# Altium integrated library WE-PD2 SMD Power Inductor.IntLib: 122 symbols (part 1 of 2)
Pins are listed as number, name and electrical type; pins without a type are passive.

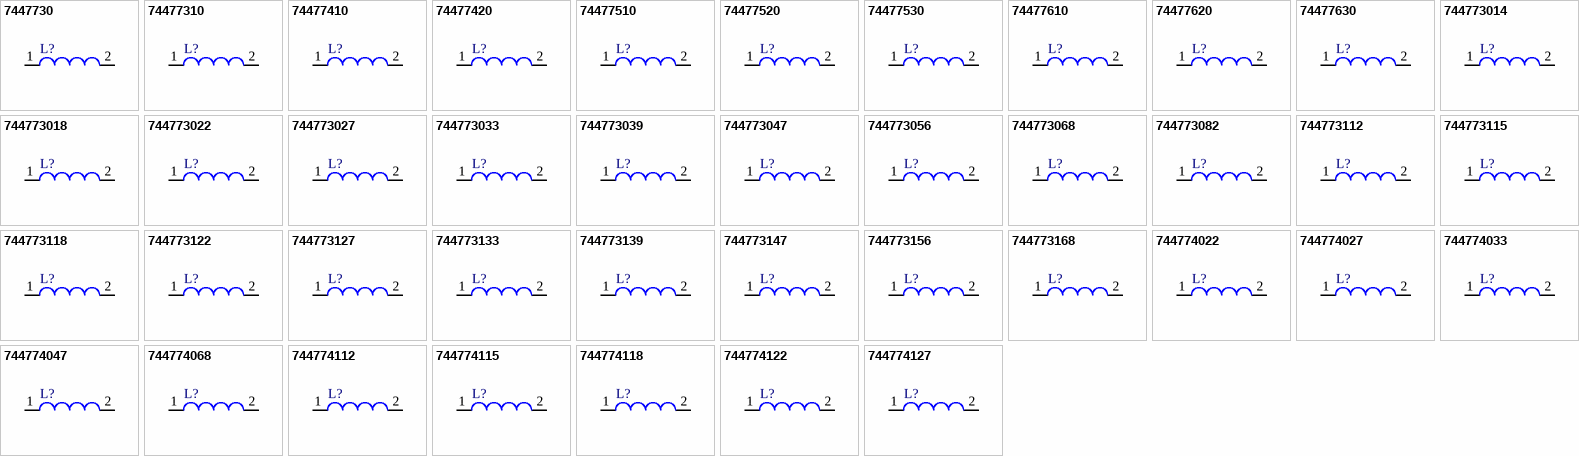
[diagram p0: symbols 7447730 to 744774127]

## 7447730
designator L?
SMD Power Inductor WE-PD2, L = 1.00 µH; PartNumber: 7447730; Inductance: 1.00 µH; DatasheetVersion: ver 1, Oct-2004; PackageReference: WE-PD2-S; PackageDescription: SMD Inductor, 2-Leads, Body 4.5 x 4.0 mm; ComponentLink1Description: Manufacturer URL; ComponentLink1URL: http://www.we-online.com; ComponentLink2Description: Datasheet; ComponentLink2URL: http://www.we-online.de/katalog/media/pdf/7447730.pdf
footprint WE-PD2-S (SMD Inductor, 2-Leads, Body 4.5x4.0x3.5 mm)
pins: 1, 2

## 74477310
designator L?
SMD Power Inductor WE-PD2, L = 10.0 µH; PartNumber: 74477310; Inductance: 10.0 µH; DatasheetVersion: ver 1, Oct-2004; PackageReference: WE-PD2-S; PackageDescription: SMD Inductor, 2-Leads, Body 4.5 x 4.0 mm; ComponentLink1Description: Manufacturer URL; ComponentLink1URL: http://www.we-online.com; ComponentLink2Description: Datasheet; ComponentLink2URL: http://www.we-online.de/katalog/media/pdf/74477310.pdf
footprint WE-PD2-S (SMD Inductor, 2-Leads, Body 4.5x4.0x3.5 mm)
pins: 1, 2

## 74477410
designator L?
SMD Power Inductor WE-PD2, L = 10.0 µH; PartNumber: 74477410; Inductance: 10.0 µH; DatasheetVersion: ver 4, Oct-2008; PackageReference: WE-PD2-M; PackageDescription: SMD Inductor, 2-Leads, Body 5.8 x 5.2 mm; ComponentLink1Description: Manufacturer URL; ComponentLink1URL: http://www.we-online.com; ComponentLink2Description: Datasheet; ComponentLink2URL: http://www.we-online.de/katalog/media/pdf/74477410.pdf
footprint WE-PD2-M (SMD Inductor, 2-Leads, Body 5.8x5.2x4.85 mm)
pins: 1, 2

## 74477420
designator L?
SMD Power Inductor WE-PD2, L = 100 µH; PartNumber: 74477420; Inductance: 100 µH; DatasheetVersion: ver 2, Jun-2005; PackageReference: WE-PD2-M; PackageDescription: SMD Inductor, 2-Leads, Body 5.8 x 5.2 mm; ComponentLink1Description: Manufacturer URL; ComponentLink1URL: http://www.we-online.com; ComponentLink2Description: Datasheet; ComponentLink2URL: http://www.we-online.de/katalog/media/pdf/74477420.pdf
footprint WE-PD2-M (SMD Inductor, 2-Leads, Body 5.8x5.2x4.85 mm)
pins: 1, 2

## 74477510
designator L?
SMD Power Inductor WE-PD2, L = 10.0 µH; PartNumber: 74477510; Inductance: 10.0 µH; DatasheetVersion: ver 1, Oct-2004; PackageReference: WE-PD2-L; PackageDescription: SMD Inductor, 2-Leads, Body 7.8 x 7.0 mm; ComponentLink1Description: Manufacturer URL; ComponentLink1URL: http://www.we-online.com; ComponentLink2Description: Datasheet; ComponentLink2URL: http://www.we-online.de/katalog/media/pdf/74477510.pdf
footprint WE-PD2-L (SMD Inductor, 2-Leads, Body 7.8x7.0x5.5 mm)
pins: 1, 2

## 74477520
designator L?
SMD Power Inductor WE-PD2, L = 100 µH; PartNumber: 74477520; Inductance: 100 µH; DatasheetVersion: ver 1, Oct-2004; PackageReference: WE-PD2-L; PackageDescription: SMD Inductor, 2-Leads, Body 7.8 x 7.0 mm; ComponentLink1Description: Manufacturer URL; ComponentLink1URL: http://www.we-online.com; ComponentLink2Description: Datasheet; ComponentLink2URL: http://www.we-online.de/katalog/media/pdf/74477520.pdf
footprint WE-PD2-L (SMD Inductor, 2-Leads, Body 7.8x7.0x5.5 mm)
pins: 1, 2

## 74477530
designator L?
SMD Power Inductor WE-PD2, L=1000 µH; PartNumber: 74477530; Inductance: 1000 µH; PackageReference: WE-PD2-L; PackageDescription: SMD Inductor, 2-Leads, Body 7.8 x 7.0 mm; ComponentLink1Description: Manufacturer URL; ComponentLink1URL: http://www.we-online.com; ComponentLink2Description: Datasheet; ComponentLink2URL: http://www.we-online.de/katalog/media/pdf/74477530.pdf
footprint WE-PD2-L (SMD Inductor, 2-Leads, Body 7.8x7.0x5.5 mm)
pins: 1, 2

## 74477610
designator L?
SMD Power Inductor WE-PD2, L = 10.0 µH; PartNumber: 74477610; Inductance: 10.0 µH; DatasheetVersion: ver 1, Oct-2004; PackageReference: WE-PD2-XL; PackageDescription: SMD Inductor, 2-Leads, Body 10.0 x 9.0 mm; ComponentLink1Description: Manufacturer URL; ComponentLink1URL: http://www.we-online.com; ComponentLink2Description: Datasheet; ComponentLink2URL: http://www.we-online.de/katalog/media/pdf/74477610.pdf
footprint WE-PD2-XL (SMD Inductor, 2-Leads, Body 10.0x9.0x5.9 mm)
pins: 1, 2

## 74477620
designator L?
SMD Power Inductor WE-PD2, L = 100 µH; PartNumber: 74477620; Inductance: 100 µH; DatasheetVersion: ver 1, Oct-2004; PackageReference: WE-PD2-XL; PackageDescription: SMD Inductor, 2-Leads, Body 10.0 x 9.0 mm; ComponentLink1Description: Manufacturer URL; ComponentLink1URL: http://www.we-online.com; ComponentLink2Description: Datasheet; ComponentLink2URL: http://www.we-online.de/katalog/media/pdf/74477620.pdf
footprint WE-PD2-XL (SMD Inductor, 2-Leads, Body 10.0x9.0x5.9 mm)
pins: 1, 2

## 74477630
designator L?
SMD Power Inductor WE-PD2, L=1000 µH; PartNumber: 74477630; Inductance: 1000 µH; PackageReference: WE-PD2-XL; PackageDescription: SMD Inductor, 2-Leads, Body 10.0 x 9.0 mm; ComponentLink1Description: Manufacturer URL; ComponentLink1URL: http://www.we-online.com; ComponentLink2Description: Datasheet; ComponentLink2URL: http://www.we-online.de/katalog/media/pdf/74477630.pdf
footprint WE-PD2-XL (SMD Inductor, 2-Leads, Body 10.0x9.0x5.9 mm)
pins: 1, 2

## 744773014
designator L?
SMD Power Inductor WE-PD2, L = 1.40 µH; PartNumber: 744773014; Inductance: 1.40 µH; DatasheetVersion: ver 1, Oct-2004; PackageReference: WE-PD2-S; PackageDescription: SMD Inductor, 2-Leads, Body 4.5 x 4.0 mm; ComponentLink1Description: Manufacturer URL; ComponentLink1URL: http://www.we-online.com; ComponentLink2Description: Datasheet; ComponentLink2URL: http://www.we-online.de/katalog/media/pdf/744773014.pdf
footprint WE-PD2-S (SMD Inductor, 2-Leads, Body 4.5x4.0x3.5 mm)
pins: 1, 2

## 744773018
designator L?
SMD Power Inductor WE-PD2, L = 1.80 µH; PartNumber: 744773018; Inductance: 1.80 µH; DatasheetVersion: ver 1, Oct-2004; PackageReference: WE-PD2-S; PackageDescription: SMD Inductor, 2-Leads, Body 4.5 x 4.0 mm; ComponentLink1Description: Manufacturer URL; ComponentLink1URL: http://www.we-online.com; ComponentLink2Description: Datasheet; ComponentLink2URL: http://www.we-online.de/katalog/media/pdf/744773018.pdf
footprint WE-PD2-S (SMD Inductor, 2-Leads, Body 4.5x4.0x3.5 mm)
pins: 1, 2

## 744773022
designator L?
SMD Power Inductor WE-PD2, L = 2.20 µH; PartNumber: 744773022; Inductance: 2.20 µH; DatasheetVersion: ver 1, Oct-2004; PackageReference: WE-PD2-S; PackageDescription: SMD Inductor, 2-Leads, Body 4.5 x 4.0 mm; ComponentLink1Description: Manufacturer URL; ComponentLink1URL: http://www.we-online.com; ComponentLink2Description: Datasheet; ComponentLink2URL: http://www.we-online.de/katalog/media/pdf/744773022.pdf
footprint WE-PD2-S (SMD Inductor, 2-Leads, Body 4.5x4.0x3.5 mm)
pins: 1, 2

## 744773027
designator L?
SMD Power Inductor WE-PD2, L = 2.70 µH; PartNumber: 744773027; Inductance: 2.70 µH; DatasheetVersion: ver 1, Oct-2004; PackageReference: WE-PD2-S; PackageDescription: SMD Inductor, 2-Leads, Body 4.5 x 4.0 mm; ComponentLink1Description: Manufacturer URL; ComponentLink1URL: http://www.we-online.com; ComponentLink2Description: Datasheet; ComponentLink2URL: http://www.we-online.de/katalog/media/pdf/744773027.pdf
footprint WE-PD2-S (SMD Inductor, 2-Leads, Body 4.5x4.0x3.5 mm)
pins: 1, 2

## 744773033
designator L?
SMD Power Inductor WE-PD2, L = 3.30 µH; PartNumber: 744773033; Inductance: 3.30 µH; DatasheetVersion: ver 1, Oct-2004; PackageReference: WE-PD2-S; PackageDescription: SMD Inductor, 2-Leads, Body 4.5 x 4.0 mm; ComponentLink1Description: Manufacturer URL; ComponentLink1URL: http://www.we-online.com; ComponentLink2Description: Datasheet; ComponentLink2URL: http://www.we-online.de/katalog/media/pdf/744773033.pdf
footprint WE-PD2-S (SMD Inductor, 2-Leads, Body 4.5x4.0x3.5 mm)
pins: 1, 2

## 744773039
designator L?
SMD Power Inductor WE-PD2, L = 3.90 µH; PartNumber: 744773039; Inductance: 3.90 µH; DatasheetVersion: ver 1, Oct-2004; PackageReference: WE-PD2-S; PackageDescription: SMD Inductor, 2-Leads, Body 4.5 x 4.0 mm; ComponentLink1Description: Manufacturer URL; ComponentLink1URL: http://www.we-online.com; ComponentLink2Description: Datasheet; ComponentLink2URL: http://www.we-online.de/katalog/media/pdf/744773039.pdf
footprint WE-PD2-S (SMD Inductor, 2-Leads, Body 4.5x4.0x3.5 mm)
pins: 1, 2

## 744773047
designator L?
SMD Power Inductor WE-PD2, L = 4.70 µH; PartNumber: 744773047; Inductance: 4.70 µH; DatasheetVersion: ver 1, Oct-2004; PackageReference: WE-PD2-S; PackageDescription: SMD Inductor, 2-Leads, Body 4.5 x 4.0 mm; ComponentLink1Description: Manufacturer URL; ComponentLink1URL: http://www.we-online.com; ComponentLink2Description: Datasheet; ComponentLink2URL: http://www.we-online.de/katalog/media/pdf/744773047.pdf
footprint WE-PD2-S (SMD Inductor, 2-Leads, Body 4.5x4.0x3.5 mm)
pins: 1, 2

## 744773056
designator L?
SMD Power Inductor WE-PD2, L = 5.60 µH; PartNumber: 744773056; Inductance: 5.60 µH; DatasheetVersion: ver 1, Oct-2004; PackageReference: WE-PD2-S; PackageDescription: SMD Inductor, 2-Leads, Body 4.5 x 4.0 mm; ComponentLink1Description: Manufacturer URL; ComponentLink1URL: http://www.we-online.com; ComponentLink2Description: Datasheet; ComponentLink2URL: http://www.we-online.de/katalog/media/pdf/744773056.pdf
footprint WE-PD2-S (SMD Inductor, 2-Leads, Body 4.5x4.0x3.5 mm)
pins: 1, 2

## 744773068
designator L?
SMD Power Inductor WE-PD2, L = 6.80 µH; PartNumber: 744773068; Inductance: 6.80 µH; DatasheetVersion: ver 1, Oct-2004; PackageReference: WE-PD2-S; PackageDescription: SMD Inductor, 2-Leads, Body 4.5 x 4.0 mm; ComponentLink1Description: Manufacturer URL; ComponentLink1URL: http://www.we-online.com; ComponentLink2Description: Datasheet; ComponentLink2URL: http://www.we-online.de/katalog/media/pdf/744773068.pdf
footprint WE-PD2-S (SMD Inductor, 2-Leads, Body 4.5x4.0x3.5 mm)
pins: 1, 2

## 744773082
designator L?
SMD Power Inductor WE-PD2, L = 8.20 µH; PartNumber: 744773082; Inductance: 8.20 µH; DatasheetVersion: ver 1, Oct-2004; PackageReference: WE-PD2-S; PackageDescription: SMD Inductor, 2-Leads, Body 4.5 x 4.0 mm; ComponentLink1Description: Manufacturer URL; ComponentLink1URL: http://www.we-online.com; ComponentLink2Description: Datasheet; ComponentLink2URL: http://www.we-online.de/katalog/media/pdf/744773082.pdf
footprint WE-PD2-S (SMD Inductor, 2-Leads, Body 4.5x4.0x3.5 mm)
pins: 1, 2

## 744773112
designator L?
SMD Power Inductor WE-PD2, L = 12.0 µH; PartNumber: 744773112; Inductance: 12.0 µH; DatasheetVersion: ver 1, Oct-2004; PackageReference: WE-PD2-S; PackageDescription: SMD Inductor, 2-Leads, Body 4.5 x 4.0 mm; ComponentLink1Description: Manufacturer URL; ComponentLink1URL: http://www.we-online.com; ComponentLink2Description: Datasheet; ComponentLink2URL: http://www.we-online.de/katalog/media/pdf/744773112.pdf
footprint WE-PD2-S (SMD Inductor, 2-Leads, Body 4.5x4.0x3.5 mm)
pins: 1, 2

## 744773115
designator L?
SMD Power Inductor WE-PD2, L = 15.0 µH; PartNumber: 744773115; Inductance: 15.0 µH; DatasheetVersion: ver 1, Oct-2004; PackageReference: WE-PD2-S; PackageDescription: SMD Inductor, 2-Leads, Body 4.5 x 4.0 mm; ComponentLink1Description: Manufacturer URL; ComponentLink1URL: http://www.we-online.com; ComponentLink2Description: Datasheet; ComponentLink2URL: http://www.we-online.de/katalog/media/pdf/744773115.pdf
footprint WE-PD2-S (SMD Inductor, 2-Leads, Body 4.5x4.0x3.5 mm)
pins: 1, 2

## 744773118
designator L?
SMD Power Inductor WE-PD2, L = 18.0 µH; PartNumber: 744773118; Inductance: 18.0 µH; DatasheetVersion: ver 1, Oct-2004; PackageReference: WE-PD2-S; PackageDescription: SMD Inductor, 2-Leads, Body 4.5 x 4.0 mm; ComponentLink1Description: Manufacturer URL; ComponentLink1URL: http://www.we-online.com; ComponentLink2Description: Datasheet; ComponentLink2URL: http://www.we-online.de/katalog/media/pdf/744773118.pdf
footprint WE-PD2-S (SMD Inductor, 2-Leads, Body 4.5x4.0x3.5 mm)
pins: 1, 2

## 744773122
designator L?
SMD Power Inductor WE-PD2, L = 22.0 µH; PartNumber: 744773122; Inductance: 22.0 µH; DatasheetVersion: ver 1, Oct-2004; PackageReference: WE-PD2-S; PackageDescription: SMD Inductor, 2-Leads, Body 4.5 x 4.0 mm; ComponentLink1Description: Manufacturer URL; ComponentLink1URL: http://www.we-online.com; ComponentLink2Description: Datasheet; ComponentLink2URL: http://www.we-online.de/katalog/media/pdf/744773122.pdf
footprint WE-PD2-S (SMD Inductor, 2-Leads, Body 4.5x4.0x3.5 mm)
pins: 1, 2

## 744773127
designator L?
SMD Power Inductor WE-PD2, L = 27.0 µH; PartNumber: 744773127; Inductance: 27.0 µH; DatasheetVersion: ver 1, Oct-2004; PackageReference: WE-PD2-S; PackageDescription: SMD Inductor, 2-Leads, Body 4.5 x 4.0 mm; ComponentLink1Description: Manufacturer URL; ComponentLink1URL: http://www.we-online.com; ComponentLink2Description: Datasheet; ComponentLink2URL: http://www.we-online.de/katalog/media/pdf/744773127.pdf
footprint WE-PD2-S (SMD Inductor, 2-Leads, Body 4.5x4.0x3.5 mm)
pins: 1, 2

## 744773133
designator L?
SMD Power Inductor WE-PD2, L = 33.0 µH; PartNumber: 744773133; Inductance: 33.0 µH; DatasheetVersion: ver 1, Oct-2004; PackageReference: WE-PD2-S; PackageDescription: SMD Inductor, 2-Leads, Body 4.5 x 4.0 mm; ComponentLink1Description: Manufacturer URL; ComponentLink1URL: http://www.we-online.com; ComponentLink2Description: Datasheet; ComponentLink2URL: http://www.we-online.de/katalog/media/pdf/744773133.pdf
footprint WE-PD2-S (SMD Inductor, 2-Leads, Body 4.5x4.0x3.5 mm)
pins: 1, 2

## 744773139
designator L?
SMD Power Inductor WE-PD2, L = 39.0 µH; PartNumber: 744773139; Inductance: 39.0 µH; DatasheetVersion: ver 1, Oct-2004; PackageReference: WE-PD2-S; PackageDescription: SMD Inductor, 2-Leads, Body 4.5 x 4.0 mm; ComponentLink1Description: Manufacturer URL; ComponentLink1URL: http://www.we-online.com; ComponentLink2Description: Datasheet; ComponentLink2URL: http://www.we-online.de/katalog/media/pdf/744773139.pdf
footprint WE-PD2-S (SMD Inductor, 2-Leads, Body 4.5x4.0x3.5 mm)
pins: 1, 2

## 744773147
designator L?
SMD Power Inductor WE-PD2, L = 47.0 µH; PartNumber: 744773147; Inductance: 47.0 µH; DatasheetVersion: ver 1, Oct-2004; PackageReference: WE-PD2-S; PackageDescription: SMD Inductor, 2-Leads, Body 4.5 x 4.0 mm; ComponentLink1Description: Manufacturer URL; ComponentLink1URL: http://www.we-online.com; ComponentLink2Description: Datasheet; ComponentLink2URL: http://www.we-online.de/katalog/media/pdf/744773147.pdf
footprint WE-PD2-S (SMD Inductor, 2-Leads, Body 4.5x4.0x3.5 mm)
pins: 1, 2

## 744773156
designator L?
SMD Power Inductor WE-PD2, L = 56.0 µH; PartNumber: 744773156; Inductance: 56.0 µH; DatasheetVersion: ver 1, Oct-2004; PackageReference: WE-PD2-S; PackageDescription: SMD Inductor, 2-Leads, Body 4.5 x 4.0 mm; ComponentLink1Description: Manufacturer URL; ComponentLink1URL: http://www.we-online.com; ComponentLink2Description: Datasheet; ComponentLink2URL: http://www.we-online.de/katalog/media/pdf/744773156.pdf
footprint WE-PD2-S (SMD Inductor, 2-Leads, Body 4.5x4.0x3.5 mm)
pins: 1, 2

## 744773168
designator L?
SMD Power Inductor WE-PD2, L = 68.0 µH; PartNumber: 744773168; Inductance: 68.0 µH; DatasheetVersion: ver 1, Oct-2004; PackageReference: WE-PD2-S; PackageDescription: SMD Inductor, 2-Leads, Body 4.5 x 4.0 mm; ComponentLink1Description: Manufacturer URL; ComponentLink1URL: http://www.we-online.com; ComponentLink2Description: Datasheet; ComponentLink2URL: http://www.we-online.de/katalog/media/pdf/744773168.pdf
footprint WE-PD2-S (SMD Inductor, 2-Leads, Body 4.5x4.0x3.5 mm)
pins: 1, 2

## 744774022
designator L?
SMD Power Inductor WE-PD2, L = 2.20 µH; PartNumber: 744774022; Inductance: 2.20 µH; DatasheetVersion: ver 2, Jun-2005; PackageReference: WE-PD2-M; PackageDescription: SMD Inductor, 2-Leads, Body 5.8 x 5.2 mm; ComponentLink1Description: Manufacturer URL; ComponentLink1URL: http://www.we-online.com; ComponentLink2Description: Datasheet; ComponentLink2URL: http://www.we-online.de/katalog/media/pdf/744774022.pdf
footprint WE-PD2-M (SMD Inductor, 2-Leads, Body 5.8x5.2x4.85 mm)
pins: 1, 2

## 744774027
designator L?
SMD Power Inductor WE-PD2, L = 2.70 µH; PartNumber: 744774027; Inductance: 2.70 µH; DatasheetVersion: ver 2, Jun-2005; PackageReference: WE-PD2-M; PackageDescription: SMD Inductor, 2-Leads, Body 5.8 x 5.2 mm; ComponentLink1Description: Manufacturer URL; ComponentLink1URL: http://www.we-online.com; ComponentLink2Description: Datasheet; ComponentLink2URL: http://www.we-online.de/katalog/media/pdf/744774027.pdf
footprint WE-PD2-M (SMD Inductor, 2-Leads, Body 5.8x5.2x4.85 mm)
pins: 1, 2

## 744774033
designator L?
SMD Power Inductor WE-PD2, L = 3.30 µH; PartNumber: 744774033; Inductance: 3.30 µH; DatasheetVersion: ver 1, Mar-2007; PackageReference: WE-PD2-M; PackageDescription: SMD Inductor, 2-Leads, Body 5.8 x 5.2 mm; ComponentLink1Description: Manufacturer URL; ComponentLink1URL: http://www.we-online.com; ComponentLink2Description: Datasheet; ComponentLink2URL: http://www.we-online.de/katalog/media/pdf/744774033.pdf
footprint WE-PD2-M (SMD Inductor, 2-Leads, Body 5.8x5.2x4.85 mm)
pins: 1, 2

## 744774047
designator L?
SMD Power Inductor WE-PD2, L = 4.70 µH; PartNumber: 744774047; Inductance: 4.70 µH; DatasheetVersion: ver 2, Jun-2005; PackageReference: WE-PD2-M; PackageDescription: SMD Inductor, 2-Leads, Body 5.8 x 5.2 mm; ComponentLink1Description: Manufacturer URL; ComponentLink1URL: http://www.we-online.com; ComponentLink2Description: Datasheet; ComponentLink2URL: http://www.we-online.de/katalog/media/pdf/744774047.pdf
footprint WE-PD2-M (SMD Inductor, 2-Leads, Body 5.8x5.2x4.85 mm)
pins: 1, 2

## 744774068
designator L?
SMD Power Inductor WE-PD2, L = 6.80 µH; PartNumber: 744774068; Inductance: 6.80 µH; DatasheetVersion: ver 3, Jun-2006; PackageReference: WE-PD2-M; PackageDescription: SMD Inductor, 2-Leads, Body 5.8 x 5.2 mm; ComponentLink1Description: Manufacturer URL; ComponentLink1URL: http://www.we-online.com; ComponentLink2Description: Datasheet; ComponentLink2URL: http://www.we-online.de/katalog/media/pdf/744774068.pdf
footprint WE-PD2-M (SMD Inductor, 2-Leads, Body 5.8x5.2x4.85 mm)
pins: 1, 2

## 744774112
designator L?
SMD Power Inductor WE-PD2, L = 12.0 µH; PartNumber: 744774112; Inductance: 12.0 µH; DatasheetVersion: ver 3, Jun-2006; PackageReference: WE-PD2-M; PackageDescription: SMD Inductor, 2-Leads, Body 5.8 x 5.2 mm; ComponentLink1Description: Manufacturer URL; ComponentLink1URL: http://www.we-online.com; ComponentLink2Description: Datasheet; ComponentLink2URL: http://www.we-online.de/katalog/media/pdf/744774112.pdf
footprint WE-PD2-M (SMD Inductor, 2-Leads, Body 5.8x5.2x4.85 mm)
pins: 1, 2

## 744774115
designator L?
SMD Power Inductor WE-PD2, L = 15.0 µH; PartNumber: 744774115; Inductance: 15.0 µH; DatasheetVersion: ver 4, Dec-2006; PackageReference: WE-PD2-M; PackageDescription: SMD Inductor, 2-Leads, Body 5.8 x 5.2 mm; ComponentLink1Description: Manufacturer URL; ComponentLink1URL: http://www.we-online.com; ComponentLink2Description: Datasheet; ComponentLink2URL: http://www.we-online.de/katalog/media/pdf/744774115.pdf
footprint WE-PD2-M (SMD Inductor, 2-Leads, Body 5.8x5.2x4.85 mm)
pins: 1, 2

## 744774118
designator L?
SMD Power Inductor WE-PD2, L = 18.0 µH; PartNumber: 744774118; Inductance: 18.0 µH; DatasheetVersion: ver 2, Jun-2005; PackageReference: WE-PD2-M; PackageDescription: SMD Inductor, 2-Leads, Body 5.8 x 5.2 mm; ComponentLink1Description: Manufacturer URL; ComponentLink1URL: http://www.we-online.com; ComponentLink2Description: Datasheet; ComponentLink2URL: http://www.we-online.de/katalog/media/pdf/744774118.pdf
footprint WE-PD2-M (SMD Inductor, 2-Leads, Body 5.8x5.2x4.85 mm)
pins: 1, 2

## 744774122
designator L?
SMD Power Inductor WE-PD2, L = 22.0 µH; PartNumber: 744774122; Inductance: 22.0 µH; DatasheetVersion: ver 2, Jun-2005; PackageReference: WE-PD2-M; PackageDescription: SMD Inductor, 2-Leads, Body 5.8 x 5.2 mm; ComponentLink1Description: Manufacturer URL; ComponentLink1URL: http://www.we-online.com; ComponentLink2Description: Datasheet; ComponentLink2URL: http://www.we-online.de/katalog/media/pdf/744774122.pdf
footprint WE-PD2-M (SMD Inductor, 2-Leads, Body 5.8x5.2x4.85 mm)
pins: 1, 2

## 744774127
designator L?
SMD Power Inductor WE-PD2, L = 27.0 µH; PartNumber: 744774127; Inductance: 27.0 µH; DatasheetVersion: ver 2, Jun-2005; PackageReference: WE-PD2-M; PackageDescription: SMD Inductor, 2-Leads, Body 5.8 x 5.2 mm; ComponentLink1Description: Manufacturer URL; ComponentLink1URL: http://www.we-online.com; ComponentLink2Description: Datasheet; ComponentLink2URL: http://www.we-online.de/katalog/media/pdf/744774127.pdf
footprint WE-PD2-M (SMD Inductor, 2-Leads, Body 5.8x5.2x4.85 mm)
pins: 1, 2

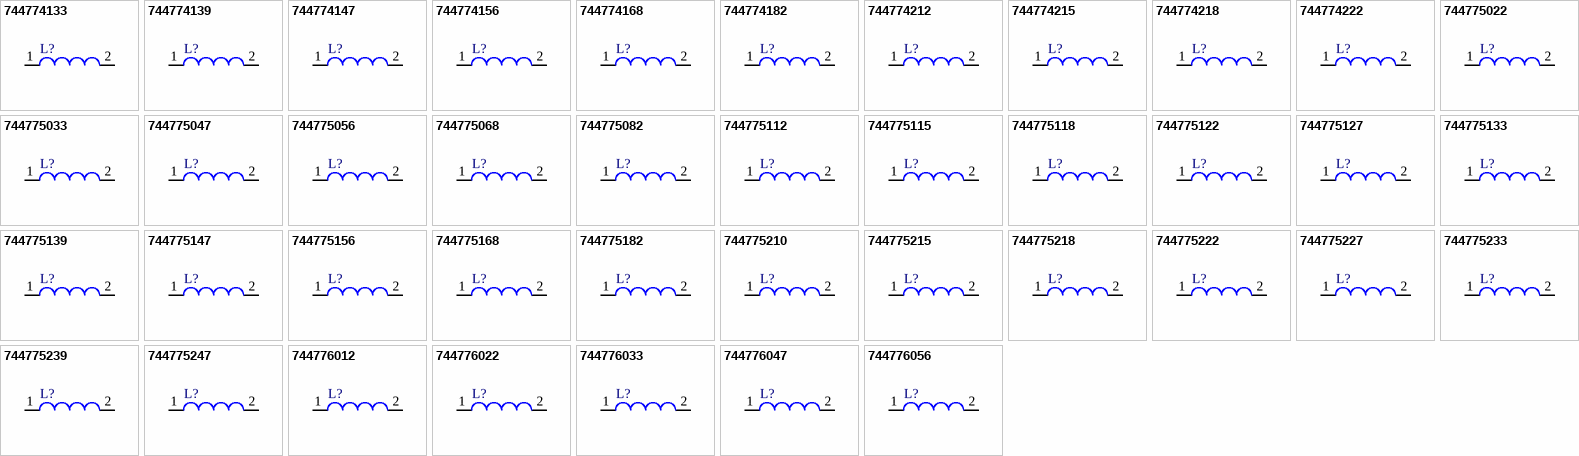
[diagram p1: symbols 744774133 to 744776056]

## 744774133
designator L?
SMD Power Inductor WE-PD2, L = 33.0 µH; PartNumber: 744774133; Inductance: 33.0 µH; DatasheetVersion: ver 2, Jun-2005; PackageReference: WE-PD2-M; PackageDescription: SMD Inductor, 2-Leads, Body 5.8 x 5.2 mm; ComponentLink1Description: Manufacturer URL; ComponentLink1URL: http://www.we-online.com; ComponentLink2Description: Datasheet; ComponentLink2URL: http://www.we-online.de/katalog/media/pdf/744774133.pdf
footprint WE-PD2-M (SMD Inductor, 2-Leads, Body 5.8x5.2x4.85 mm)
pins: 1, 2

## 744774139
designator L?
SMD Power Inductor WE-PD2, L = 39.0 µH; PartNumber: 744774139; Inductance: 39.0 µH; DatasheetVersion: ver 2, Jun-2005; PackageReference: WE-PD2-M; PackageDescription: SMD Inductor, 2-Leads, Body 5.8 x 5.2 mm; ComponentLink1Description: Manufacturer URL; ComponentLink1URL: http://www.we-online.com; ComponentLink2Description: Datasheet; ComponentLink2URL: http://www.we-online.de/katalog/media/pdf/744774139.pdf
footprint WE-PD2-M (SMD Inductor, 2-Leads, Body 5.8x5.2x4.85 mm)
pins: 1, 2

## 744774147
designator L?
SMD Power Inductor WE-PD2, L = 47.0 µH; PartNumber: 744774147; Inductance: 47.0 µH; DatasheetVersion: ver 2, Jun-2005; PackageReference: WE-PD2-M; PackageDescription: SMD Inductor, 2-Leads, Body 5.8 x 5.2 mm; ComponentLink1Description: Manufacturer URL; ComponentLink1URL: http://www.we-online.com; ComponentLink2Description: Datasheet; ComponentLink2URL: http://www.we-online.de/katalog/media/pdf/744774147.pdf
footprint WE-PD2-M (SMD Inductor, 2-Leads, Body 5.8x5.2x4.85 mm)
pins: 1, 2

## 744774156
designator L?
SMD Power Inductor WE-PD2, L = 56.0 µH; PartNumber: 744774156; Inductance: 56.0 µH; DatasheetVersion: ver 2, Jun-2005; PackageReference: WE-PD2-M; PackageDescription: SMD Inductor, 2-Leads, Body 5.8 x 5.2 mm; ComponentLink1Description: Manufacturer URL; ComponentLink1URL: http://www.we-online.com; ComponentLink2Description: Datasheet; ComponentLink2URL: http://www.we-online.de/katalog/media/pdf/744774156.pdf
footprint WE-PD2-M (SMD Inductor, 2-Leads, Body 5.8x5.2x4.85 mm)
pins: 1, 2

## 744774168
designator L?
SMD Power Inductor WE-PD2, L = 68.0 µH; PartNumber: 744774168; Inductance: 68.0 µH; DatasheetVersion: ver 2, Jun-2005; PackageReference: WE-PD2-M; PackageDescription: SMD Inductor, 2-Leads, Body 5.8 x 5.2 mm; ComponentLink1Description: Manufacturer URL; ComponentLink1URL: http://www.we-online.com; ComponentLink2Description: Datasheet; ComponentLink2URL: http://www.we-online.de/katalog/media/pdf/744774168.pdf
footprint WE-PD2-M (SMD Inductor, 2-Leads, Body 5.8x5.2x4.85 mm)
pins: 1, 2

## 744774182
designator L?
SMD Power Inductor WE-PD2, L = 82.0 µH; PartNumber: 744774182; Inductance: 82.0 µH; DatasheetVersion: ver 2, Jun-2005; PackageReference: WE-PD2-M; PackageDescription: SMD Inductor, 2-Leads, Body 5.8 x 5.2 mm; ComponentLink1Description: Manufacturer URL; ComponentLink1URL: http://www.we-online.com; ComponentLink2Description: Datasheet; ComponentLink2URL: http://www.we-online.de/katalog/media/pdf/744774182.pdf
footprint WE-PD2-M (SMD Inductor, 2-Leads, Body 5.8x5.2x4.85 mm)
pins: 1, 2

## 744774212
designator L?
SMD Power Inductor WE-PD2, L = 120 µH; PartNumber: 744774212; Inductance: 120 µH; DatasheetVersion: ver 2, Jun-2005; PackageReference: WE-PD2-M; PackageDescription: SMD Inductor, 2-Leads, Body 5.8 x 5.2 mm; ComponentLink1Description: Manufacturer URL; ComponentLink1URL: http://www.we-online.com; ComponentLink2Description: Datasheet; ComponentLink2URL: http://www.we-online.de/katalog/media/pdf/744774212.pdf
footprint WE-PD2-M (SMD Inductor, 2-Leads, Body 5.8x5.2x4.85 mm)
pins: 1, 2

## 744774215
designator L?
SMD Power Inductor WE-PD2, L = 150 µH; PartNumber: 744774215; Inductance: 150 µH; DatasheetVersion: ver 2, Jun-2005; PackageReference: WE-PD2-M; PackageDescription: SMD Inductor, 2-Leads, Body 5.8 x 5.2 mm; ComponentLink1Description: Manufacturer URL; ComponentLink1URL: http://www.we-online.com; ComponentLink2Description: Datasheet; ComponentLink2URL: http://www.we-online.de/katalog/media/pdf/744774215.pdf
footprint WE-PD2-M (SMD Inductor, 2-Leads, Body 5.8x5.2x4.85 mm)
pins: 1, 2

## 744774218
designator L?
SMD Power Inductor WE-PD2, L = 180 µH; PartNumber: 744774218; Inductance: 180 µH; DatasheetVersion: ver 2, Jun-2005; PackageReference: WE-PD2-M; PackageDescription: SMD Inductor, 2-Leads, Body 5.8 x 5.2 mm; ComponentLink1Description: Manufacturer URL; ComponentLink1URL: http://www.we-online.com; ComponentLink2Description: Datasheet; ComponentLink2URL: http://www.we-online.de/katalog/media/pdf/744774218.pdf
footprint WE-PD2-M (SMD Inductor, 2-Leads, Body 5.8x5.2x4.85 mm)
pins: 1, 2

## 744774222
designator L?
SMD Power Inductor WE-PD2, L = 220 µH; PartNumber: 744774222; Inductance: 220 µH; DatasheetVersion: ver 2, Jun-2005; PackageReference: WE-PD2-M; PackageDescription: SMD Inductor, 2-Leads, Body 5.8 x 5.2 mm; ComponentLink1Description: Manufacturer URL; ComponentLink1URL: http://www.we-online.com; ComponentLink2Description: Datasheet; ComponentLink2URL: http://www.we-online.de/katalog/media/pdf/744774222.pdf
footprint WE-PD2-M (SMD Inductor, 2-Leads, Body 5.8x5.2x4.85 mm)
pins: 1, 2

## 744775022
designator L?
SMD Power Inductor WE-PD2, L=2.20 µH; PartNumber: 744775022; Inductance: 2.20 µH; PackageReference: WE-PD2-L; PackageDescription: SMD Inductor, 2-Leads, Body 7.8 x 7.0 mm; ComponentLink1Description: Manufacturer URL; ComponentLink1URL: http://www.we-online.com; ComponentLink2Description: Datasheet; ComponentLink2URL: http://www.we-online.de/katalog/media/pdf/744775022.pdf
footprint WE-PD2-L (SMD Inductor, 2-Leads, Body 7.8x7.0x5.5 mm)
pins: 1, 2

## 744775033
designator L?
SMD Power Inductor WE-PD2, L=3.30 µH; PartNumber: 744775033; Inductance: 3.30 µH; PackageReference: WE-PD2-L; PackageDescription: SMD Inductor, 2-Leads, Body 7.8 x 7.0 mm; ComponentLink1Description: Manufacturer URL; ComponentLink1URL: http://www.we-online.com; ComponentLink2Description: Datasheet; ComponentLink2URL: http://www.we-online.de/katalog/media/pdf/744775033.pdf
footprint WE-PD2-L (SMD Inductor, 2-Leads, Body 7.8x7.0x5.5 mm)
pins: 1, 2

## 744775047
designator L?
SMD Power Inductor WE-PD2, L=4.70 µH; PartNumber: 744775047; Inductance: 4.70 µH; PackageReference: WE-PD2-L; PackageDescription: SMD Inductor, 2-Leads, Body 7.8 x 7.0 mm; ComponentLink1Description: Manufacturer URL; ComponentLink1URL: http://www.we-online.com; ComponentLink2Description: Datasheet; ComponentLink2URL: http://www.we-online.de/katalog/media/pdf/744775047.pdf
footprint WE-PD2-L (SMD Inductor, 2-Leads, Body 7.8x7.0x5.5 mm)
pins: 1, 2

## 744775056
designator L?
SMD Power Inductor WE-PD2, L=5.60 µH; PartNumber: 744775056; Inductance: 5.60 µH; PackageReference: WE-PD2-L; PackageDescription: SMD Inductor, 2-Leads, Body 7.8 x 7.0 mm; ComponentLink1Description: Manufacturer URL; ComponentLink1URL: http://www.we-online.com; ComponentLink2Description: Datasheet; ComponentLink2URL: http://www.we-online.de/katalog/media/pdf/744775056.pdf
footprint WE-PD2-L (SMD Inductor, 2-Leads, Body 7.8x7.0x5.5 mm)
pins: 1, 2

## 744775068
designator L?
SMD Power Inductor WE-PD2, L=6.80 µH; PartNumber: 744775068; Inductance: 6.80 µH; PackageReference: WE-PD2-L; PackageDescription: SMD Inductor, 2-Leads, Body 7.8 x 7.0 mm; ComponentLink1Description: Manufacturer URL; ComponentLink1URL: http://www.we-online.com; ComponentLink2Description: Datasheet; ComponentLink2URL: http://www.we-online.de/katalog/media/pdf/744775068.pdf
footprint WE-PD2-L (SMD Inductor, 2-Leads, Body 7.8x7.0x5.5 mm)
pins: 1, 2

## 744775082
designator L?
SMD Power Inductor WE-PD2, L=8.20 µH; PartNumber: 744775082; Inductance: 8.20 µH; PackageReference: WE-PD2-L; PackageDescription: SMD Inductor, 2-Leads, Body 7.8 x 7.0 mm; ComponentLink1Description: Manufacturer URL; ComponentLink1URL: http://www.we-online.com; ComponentLink2Description: Datasheet; ComponentLink2URL: http://www.we-online.de/katalog/media/pdf/744775082.pdf
footprint WE-PD2-L (SMD Inductor, 2-Leads, Body 7.8x7.0x5.5 mm)
pins: 1, 2

## 744775112
designator L?
SMD Power Inductor WE-PD2, L = 12.0 µH; PartNumber: 744775112; Inductance: 12.0 µH; DatasheetVersion: ver 1, Oct-2004; PackageReference: WE-PD2-L; PackageDescription: SMD Inductor, 2-Leads, Body 7.8 x 7.0 mm; ComponentLink1Description: Manufacturer URL; ComponentLink1URL: http://www.we-online.com; ComponentLink2Description: Datasheet; ComponentLink2URL: http://www.we-online.de/katalog/media/pdf/744775112.pdf
footprint WE-PD2-L (SMD Inductor, 2-Leads, Body 7.8x7.0x5.5 mm)
pins: 1, 2

## 744775115
designator L?
SMD Power Inductor WE-PD2, L = 15.0 µH; PartNumber: 744775115; Inductance: 15.0 µH; DatasheetVersion: ver 1, Oct-2004; PackageReference: WE-PD2-L; PackageDescription: SMD Inductor, 2-Leads, Body 7.8 x 7.0 mm; ComponentLink1Description: Manufacturer URL; ComponentLink1URL: http://www.we-online.com; ComponentLink2Description: Datasheet; ComponentLink2URL: http://www.we-online.de/katalog/media/pdf/744775115.pdf
footprint WE-PD2-L (SMD Inductor, 2-Leads, Body 7.8x7.0x5.5 mm)
pins: 1, 2

## 744775118
designator L?
SMD Power Inductor WE-PD2, L = 18.0 µH; PartNumber: 744775118; Inductance: 18.0 µH; DatasheetVersion: ver 1, Oct-2004; PackageReference: WE-PD2-L; PackageDescription: SMD Inductor, 2-Leads, Body 7.8 x 7.0 mm; ComponentLink1Description: Manufacturer URL; ComponentLink1URL: http://www.we-online.com; ComponentLink2Description: Datasheet; ComponentLink2URL: http://www.we-online.de/katalog/media/pdf/744775118.pdf
footprint WE-PD2-L (SMD Inductor, 2-Leads, Body 7.8x7.0x5.5 mm)
pins: 1, 2

## 744775122
designator L?
SMD Power Inductor WE-PD2, L = 22.0 µH; PartNumber: 744775122; Inductance: 22.0 µH; DatasheetVersion: ver 1, Oct-2004; PackageReference: WE-PD2-L; PackageDescription: SMD Inductor, 2-Leads, Body 7.8 x 7.0 mm; ComponentLink1Description: Manufacturer URL; ComponentLink1URL: http://www.we-online.com; ComponentLink2Description: Datasheet; ComponentLink2URL: http://www.we-online.de/katalog/media/pdf/744775122.pdf
footprint WE-PD2-L (SMD Inductor, 2-Leads, Body 7.8x7.0x5.5 mm)
pins: 1, 2

## 744775127
designator L?
SMD Power Inductor WE-PD2, L = 27.0 µH; PartNumber: 744775127; Inductance: 27.0 µH; DatasheetVersion: ver 1, Oct-2004; PackageReference: WE-PD2-L; PackageDescription: SMD Inductor, 2-Leads, Body 7.8 x 7.0 mm; ComponentLink1Description: Manufacturer URL; ComponentLink1URL: http://www.we-online.com; ComponentLink2Description: Datasheet; ComponentLink2URL: http://www.we-online.de/katalog/media/pdf/744775127.pdf
footprint WE-PD2-L (SMD Inductor, 2-Leads, Body 7.8x7.0x5.5 mm)
pins: 1, 2

## 744775133
designator L?
SMD Power Inductor WE-PD2, L = 33.0 µH; PartNumber: 744775133; Inductance: 33.0 µH; DatasheetVersion: ver 1, Oct-2004; PackageReference: WE-PD2-L; PackageDescription: SMD Inductor, 2-Leads, Body 7.8 x 7.0 mm; ComponentLink1Description: Manufacturer URL; ComponentLink1URL: http://www.we-online.com; ComponentLink2Description: Datasheet; ComponentLink2URL: http://www.we-online.de/katalog/media/pdf/744775133.pdf
footprint WE-PD2-L (SMD Inductor, 2-Leads, Body 7.8x7.0x5.5 mm)
pins: 1, 2

## 744775139
designator L?
SMD Power Inductor WE-PD2, L = 39.0 µH; PartNumber: 744775139; Inductance: 39.0 µH; DatasheetVersion: ver 1, Oct-2004; PackageReference: WE-PD2-L; PackageDescription: SMD Inductor, 2-Leads, Body 7.8 x 7.0 mm; ComponentLink1Description: Manufacturer URL; ComponentLink1URL: http://www.we-online.com; ComponentLink2Description: Datasheet; ComponentLink2URL: http://www.we-online.de/katalog/media/pdf/744775139.pdf
footprint WE-PD2-L (SMD Inductor, 2-Leads, Body 7.8x7.0x5.5 mm)
pins: 1, 2

## 744775147
designator L?
SMD Power Inductor WE-PD2, L = 47.0 µH; PartNumber: 744775147; Inductance: 47.0 µH; DatasheetVersion: ver 1, Oct-2004; PackageReference: WE-PD2-L; PackageDescription: SMD Inductor, 2-Leads, Body 7.8 x 7.0 mm; ComponentLink1Description: Manufacturer URL; ComponentLink1URL: http://www.we-online.com; ComponentLink2Description: Datasheet; ComponentLink2URL: http://www.we-online.de/katalog/media/pdf/744775147.pdf
footprint WE-PD2-L (SMD Inductor, 2-Leads, Body 7.8x7.0x5.5 mm)
pins: 1, 2

## 744775156
designator L?
SMD Power Inductor WE-PD2, L = 56.0 µH; PartNumber: 744775156; Inductance: 56.0 µH; DatasheetVersion: ver 1, Oct-2004; PackageReference: WE-PD2-L; PackageDescription: SMD Inductor, 2-Leads, Body 7.8 x 7.0 mm; ComponentLink1Description: Manufacturer URL; ComponentLink1URL: http://www.we-online.com; ComponentLink2Description: Datasheet; ComponentLink2URL: http://www.we-online.de/katalog/media/pdf/744775156.pdf
footprint WE-PD2-L (SMD Inductor, 2-Leads, Body 7.8x7.0x5.5 mm)
pins: 1, 2

## 744775168
designator L?
SMD Power Inductor WE-PD2, L = 68.0 µH; PartNumber: 744775168; Inductance: 68.0 µH; DatasheetVersion: ver 1, Oct-2004; PackageReference: WE-PD2-L; PackageDescription: SMD Inductor, 2-Leads, Body 7.8 x 7.0 mm; ComponentLink1Description: Manufacturer URL; ComponentLink1URL: http://www.we-online.com; ComponentLink2Description: Datasheet; ComponentLink2URL: http://www.we-online.de/katalog/media/pdf/744775168.pdf
footprint WE-PD2-L (SMD Inductor, 2-Leads, Body 7.8x7.0x5.5 mm)
pins: 1, 2

## 744775182
designator L?
SMD Power Inductor WE-PD2, L = 82.0 µH; PartNumber: 744775182; Inductance: 82.0 µH; DatasheetVersion: ver 1, Oct-2004; PackageReference: WE-PD2-L; PackageDescription: SMD Inductor, 2-Leads, Body 7.8 x 7.0 mm; ComponentLink1Description: Manufacturer URL; ComponentLink1URL: http://www.we-online.com; ComponentLink2Description: Datasheet; ComponentLink2URL: http://www.we-online.de/katalog/media/pdf/744775182.pdf
footprint WE-PD2-L (SMD Inductor, 2-Leads, Body 7.8x7.0x5.5 mm)
pins: 1, 2

## 744775210
designator L?
SMD Power Inductor WE-PD2, L = 120 µH; PartNumber: 744775210; Inductance: 120 µH; DatasheetVersion: ver 1, Oct-2004; PackageReference: WE-PD2-L; PackageDescription: SMD Inductor, 2-Leads, Body 7.8 x 7.0 mm; ComponentLink1Description: Manufacturer URL; ComponentLink1URL: http://www.we-online.com; ComponentLink2Description: Datasheet; ComponentLink2URL: http://www.we-online.de/katalog/media/pdf/744775210.pdf
footprint WE-PD2-L (SMD Inductor, 2-Leads, Body 7.8x7.0x5.5 mm)
pins: 1, 2

## 744775215
designator L?
SMD Power Inductor WE-PD2, L = 150 µH; PartNumber: 744775215; Inductance: 150 µH; DatasheetVersion: ver 1, Oct-2004; PackageReference: WE-PD2-L; PackageDescription: SMD Inductor, 2-Leads, Body 7.8 x 7.0 mm; ComponentLink1Description: Manufacturer URL; ComponentLink1URL: http://www.we-online.com; ComponentLink2Description: Datasheet; ComponentLink2URL: http://www.we-online.de/katalog/media/pdf/744775215.pdf
footprint WE-PD2-L (SMD Inductor, 2-Leads, Body 7.8x7.0x5.5 mm)
pins: 1, 2

## 744775218
designator L?
SMD Power Inductor WE-PD2, L = 180 µH; PartNumber: 744775218; Inductance: 180 µH; DatasheetVersion: ver 1, Oct-2004; PackageReference: WE-PD2-L; PackageDescription: SMD Inductor, 2-Leads, Body 7.8 x 7.0 mm; ComponentLink1Description: Manufacturer URL; ComponentLink1URL: http://www.we-online.com; ComponentLink2Description: Datasheet; ComponentLink2URL: http://www.we-online.de/katalog/media/pdf/744775218.pdf
footprint WE-PD2-L (SMD Inductor, 2-Leads, Body 7.8x7.0x5.5 mm)
pins: 1, 2

## 744775222
designator L?
SMD Power Inductor WE-PD2, L = 220 µH; PartNumber: 744775222; Inductance: 220 µH; DatasheetVersion: ver 1, Oct-2004; PackageReference: WE-PD2-L; PackageDescription: SMD Inductor, 2-Leads, Body 7.8 x 7.0 mm; ComponentLink1Description: Manufacturer URL; ComponentLink1URL: http://www.we-online.com; ComponentLink2Description: Datasheet; ComponentLink2URL: http://www.we-online.de/katalog/media/pdf/744775222.pdf
footprint WE-PD2-L (SMD Inductor, 2-Leads, Body 7.8x7.0x5.5 mm)
pins: 1, 2

## 744775227
designator L?
SMD Power Inductor WE-PD2, L = 270 µH; PartNumber: 744775227; Inductance: 270 µH; DatasheetVersion: ver 1, Oct-2004; PackageReference: WE-PD2-L; PackageDescription: SMD Inductor, 2-Leads, Body 7.8 x 7.0 mm; ComponentLink1Description: Manufacturer URL; ComponentLink1URL: http://www.we-online.com; ComponentLink2Description: Datasheet; ComponentLink2URL: http://www.we-online.de/katalog/media/pdf/744775227.pdf
footprint WE-PD2-L (SMD Inductor, 2-Leads, Body 7.8x7.0x5.5 mm)
pins: 1, 2

## 744775233
designator L?
SMD Power Inductor WE-PD2, L = 330 µH; PartNumber: 744775233; Inductance: 330 µH; DatasheetVersion: ver 1, Oct-2004; PackageReference: WE-PD2-L; PackageDescription: SMD Inductor, 2-Leads, Body 7.8 x 7.0 mm; ComponentLink1Description: Manufacturer URL; ComponentLink1URL: http://www.we-online.com; ComponentLink2Description: Datasheet; ComponentLink2URL: http://www.we-online.de/katalog/media/pdf/744775233.pdf
footprint WE-PD2-L (SMD Inductor, 2-Leads, Body 7.8x7.0x5.5 mm)
pins: 1, 2

## 744775239
designator L?
SMD Power Inductor WE-PD2, L = 390 µH; PartNumber: 744775239; Inductance: 390 µH; DatasheetVersion: ver 1, Oct-2004; PackageReference: WE-PD2-L; PackageDescription: SMD Inductor, 2-Leads, Body 7.8 x 7.0 mm; ComponentLink1Description: Manufacturer URL; ComponentLink1URL: http://www.we-online.com; ComponentLink2Description: Datasheet; ComponentLink2URL: http://www.we-online.de/katalog/media/pdf/744775239.pdf
footprint WE-PD2-L (SMD Inductor, 2-Leads, Body 7.8x7.0x5.5 mm)
pins: 1, 2

## 744775247
designator L?
SMD Power Inductor WE-PD2, L = 470 µH; PartNumber: 744775247; Inductance: 470 µH; DatasheetVersion: Oct-2004; PackageReference: WE-PD2-L; PackageDescription: SMD Inductor, 2-Leads, Body 7.8 x 7.0 mm; ComponentLink1Description: Manufacturer URL; ComponentLink1URL: http://www.we-online.com; ComponentLink2Description: Datasheet; ComponentLink2URL: http://www.we-online.de/katalog/media/pdf/744775247.pdf
footprint WE-PD2-L (SMD Inductor, 2-Leads, Body 7.8x7.0x5.5 mm)
pins: 1, 2

## 744776012
designator L?
SMD Power Inductor WE-PD2, L=1.20 µH; PartNumber: 744776012; Inductance: 1.20 µH; PackageReference: WE-PD2-XL; PackageDescription: SMD Inductor, 2-Leads, Body 10.0 x 9.0 mm; ComponentLink1Description: Manufacturer URL; ComponentLink1URL: http://www.we-online.com; ComponentLink2Description: Datasheet; ComponentLink2URL: http://www.we-online.de/katalog/media/pdf/744776012.pdf
footprint WE-PD2-XL (SMD Inductor, 2-Leads, Body 10.0x9.0x5.9 mm)
pins: 1, 2

## 744776022
designator L?
SMD Power Inductor WE-PD2, L=2.20 µH; PartNumber: 744776022; Inductance: 2.20 µH; PackageReference: WE-PD2-XL; PackageDescription: SMD Inductor, 2-Leads, Body 10.0 x 9.0 mm; ComponentLink1Description: Manufacturer URL; ComponentLink1URL: http://www.we-online.com; ComponentLink2Description: Datasheet; ComponentLink2URL: http://www.we-online.de/katalog/media/pdf/744776022.pdf
footprint WE-PD2-XL (SMD Inductor, 2-Leads, Body 10.0x9.0x5.9 mm)
pins: 1, 2

## 744776033
designator L?
SMD Power Inductor WE-PD2, L=3.30 µH; PartNumber: 744776033; Inductance: 3.30 µH; PackageReference: WE-PD2-XL; PackageDescription: SMD Inductor, 2-Leads, Body 10.0 x 9.0 mm; ComponentLink1Description: Manufacturer URL; ComponentLink1URL: http://www.we-online.com; ComponentLink2Description: Datasheet; ComponentLink2URL: http://www.we-online.de/katalog/media/pdf/744776033.pdf
footprint WE-PD2-XL (SMD Inductor, 2-Leads, Body 10.0x9.0x5.9 mm)
pins: 1, 2

## 744776047
designator L?
SMD Power Inductor WE-PD2, L=4.70 µH; PartNumber: 744776047; Inductance: 4.70 µH; PackageReference: WE-PD2-XL; PackageDescription: SMD Inductor, 2-Leads, Body 10.0 x 9.0 mm; ComponentLink1Description: Manufacturer URL; ComponentLink1URL: http://www.we-online.com; ComponentLink2Description: Datasheet; ComponentLink2URL: http://www.we-online.de/katalog/media/pdf/744776047.pdf
footprint WE-PD2-XL (SMD Inductor, 2-Leads, Body 10.0x9.0x5.9 mm)
pins: 1, 2

## 744776056
designator L?
SMD Power Inductor WE-PD2, L=5.60 µH; PartNumber: 744776056; Inductance: 5.60 µH; PackageReference: WE-PD2-XL; PackageDescription: SMD Inductor, 2-Leads, Body 10.0 x 9.0 mm; ComponentLink1Description: Manufacturer URL; ComponentLink1URL: http://www.we-online.com; ComponentLink2Description: Datasheet; ComponentLink2URL: http://www.we-online.de/katalog/media/pdf/744776056.pdf
footprint WE-PD2-XL (SMD Inductor, 2-Leads, Body 10.0x9.0x5.9 mm)
pins: 1, 2

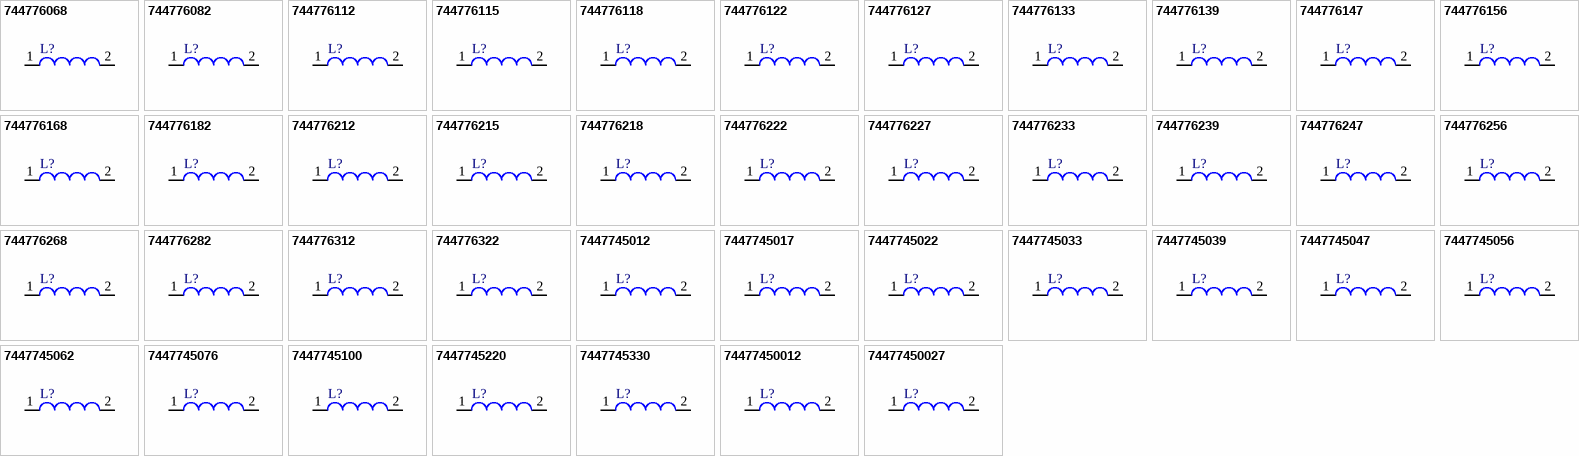
[diagram p2: symbols 744776068 to 74477450027]

## 744776068
designator L?
SMD Power Inductor WE-PD2, L=6.80 µH; PartNumber: 744776068; Inductance: 6.80 µH; PackageReference: WE-PD2-XL; PackageDescription: SMD Inductor, 2-Leads, Body 10.0 x 9.0 mm; ComponentLink1Description: Manufacturer URL; ComponentLink1URL: http://www.we-online.com; ComponentLink2Description: Datasheet; ComponentLink2URL: http://www.we-online.de/katalog/media/pdf/744776068.pdf
footprint WE-PD2-XL (SMD Inductor, 2-Leads, Body 10.0x9.0x5.9 mm)
pins: 1, 2

## 744776082
designator L?
SMD Power Inductor WE-PD2, L=8.20 µH; PartNumber: 744776082; Inductance: 8.20 µH; PackageReference: WE-PD2-XL; PackageDescription: SMD Inductor, 2-Leads, Body 10.0 x 9.0 mm; ComponentLink1Description: Manufacturer URL; ComponentLink1URL: http://www.we-online.com; ComponentLink2Description: Datasheet; ComponentLink2URL: http://www.we-online.de/katalog/media/pdf/744776082.pdf
footprint WE-PD2-XL (SMD Inductor, 2-Leads, Body 10.0x9.0x5.9 mm)
pins: 1, 2

## 744776112
designator L?
SMD Power Inductor WE-PD2, L = 12.0 µH; PartNumber: 744776112; Inductance: 12.0 µH; DatasheetVersion: ver 1, Oct-2004; PackageReference: WE-PD2-XL; PackageDescription: SMD Inductor, 2-Leads, Body 10.0 x 9.0 mm; ComponentLink1Description: Manufacturer URL; ComponentLink1URL: http://www.we-online.com; ComponentLink2Description: Datasheet; ComponentLink2URL: http://www.we-online.de/katalog/media/pdf/744776112.pdf
footprint WE-PD2-XL (SMD Inductor, 2-Leads, Body 10.0x9.0x5.9 mm)
pins: 1, 2

## 744776115
designator L?
SMD Power Inductor WE-PD2, L = 15.0 µH; PartNumber: 744776115; Inductance: 15.0 µH; DatasheetVersion: ver 1, Oct-2004; PackageReference: WE-PD2-XL; PackageDescription: SMD Inductor, 2-Leads, Body 10.0 x 9.0 mm; ComponentLink1Description: Manufacturer URL; ComponentLink1URL: http://www.we-online.com; ComponentLink2Description: Datasheet; ComponentLink2URL: http://www.we-online.de/katalog/media/pdf/744776115.pdf
footprint WE-PD2-XL (SMD Inductor, 2-Leads, Body 10.0x9.0x5.9 mm)
pins: 1, 2

## 744776118
designator L?
SMD Power Inductor WE-PD2, L = 18.0 µH; PartNumber: 744776118; Inductance: 18.0 µH; DatasheetVersion: ver 1, Oct-2004; PackageReference: WE-PD2-XL; PackageDescription: SMD Inductor, 2-Leads, Body 10.0 x 9.0 mm; ComponentLink1Description: Manufacturer URL; ComponentLink1URL: http://www.we-online.com; ComponentLink2Description: Datasheet; ComponentLink2URL: http://www.we-online.de/katalog/media/pdf/744776118.pdf
footprint WE-PD2-XL (SMD Inductor, 2-Leads, Body 10.0x9.0x5.9 mm)
pins: 1, 2

## 744776122
designator L?
SMD Power Inductor WE-PD2, L = 22.0 µH; PartNumber: 744776122; Inductance: 22.0 µH; DatasheetVersion: ver 1, Oct-2004; PackageReference: WE-PD2-XL; PackageDescription: SMD Inductor, 2-Leads, Body 10.0 x 9.0 mm; ComponentLink1Description: Manufacturer URL; ComponentLink1URL: http://www.we-online.com; ComponentLink2Description: Datasheet; ComponentLink2URL: http://www.we-online.de/katalog/media/pdf/744776122.pdf
footprint WE-PD2-XL (SMD Inductor, 2-Leads, Body 10.0x9.0x5.9 mm)
pins: 1, 2

## 744776127
designator L?
SMD Power Inductor WE-PD2, L = 27.0 µH; PartNumber: 744776127; Inductance: 27.0 µH; DatasheetVersion: ver 1, Oct-2004; PackageReference: WE-PD2-XL; PackageDescription: SMD Inductor, 2-Leads, Body 10.0 x 9.0 mm; ComponentLink1Description: Manufacturer URL; ComponentLink1URL: http://www.we-online.com; ComponentLink2Description: Datasheet; ComponentLink2URL: http://www.we-online.de/katalog/media/pdf/744776127.pdf
footprint WE-PD2-XL (SMD Inductor, 2-Leads, Body 10.0x9.0x5.9 mm)
pins: 1, 2

## 744776133
designator L?
SMD Power Inductor WE-PD2, L = 33.0 µH; PartNumber: 744776133; Inductance: 33.0 µH; DatasheetVersion: ver 1, Oct-2004; PackageReference: WE-PD2-XL; PackageDescription: SMD Inductor, 2-Leads, Body 10.0 x 9.0 mm; ComponentLink1Description: Manufacturer URL; ComponentLink1URL: http://www.we-online.com; ComponentLink2Description: Datasheet; ComponentLink2URL: http://www.we-online.de/katalog/media/pdf/744776133.pdf
footprint WE-PD2-XL (SMD Inductor, 2-Leads, Body 10.0x9.0x5.9 mm)
pins: 1, 2

## 744776139
designator L?
SMD Power Inductor WE-PD2, L = 39.0 µH; PartNumber: 744776139; Inductance: 39.0 µH; DatasheetVersion: ver 1, Oct-2004; PackageReference: WE-PD2-XL; PackageDescription: SMD Inductor, 2-Leads, Body 10.0 x 9.0 mm; ComponentLink1Description: Manufacturer URL; ComponentLink1URL: http://www.we-online.com; ComponentLink2Description: Datasheet; ComponentLink2URL: http://www.we-online.de/katalog/media/pdf/744776139.pdf
footprint WE-PD2-XL (SMD Inductor, 2-Leads, Body 10.0x9.0x5.9 mm)
pins: 1, 2

## 744776147
designator L?
SMD Power Inductor WE-PD2, L = 47.0 µH; PartNumber: 744776147; Inductance: 47.0 µH; DatasheetVersion: ver 1, Oct-2004; PackageReference: WE-PD2-XL; PackageDescription: SMD Inductor, 2-Leads, Body 10.0 x 9.0 mm; ComponentLink1Description: Manufacturer URL; ComponentLink1URL: http://www.we-online.com; ComponentLink2Description: Datasheet; ComponentLink2URL: http://www.we-online.de/katalog/media/pdf/744776147.pdf
footprint WE-PD2-XL (SMD Inductor, 2-Leads, Body 10.0x9.0x5.9 mm)
pins: 1, 2

## 744776156
designator L?
SMD Power Inductor WE-PD2, L = 56.0 µH; PartNumber: 744776156; Inductance: 56.0 µH; DatasheetVersion: ver 1, Oct-2004; PackageReference: WE-PD2-XL; PackageDescription: SMD Inductor, 2-Leads, Body 10.0 x 9.0 mm; ComponentLink1Description: Manufacturer URL; ComponentLink1URL: http://www.we-online.com; ComponentLink2Description: Datasheet; ComponentLink2URL: http://www.we-online.de/katalog/media/pdf/744776156.pdf
footprint WE-PD2-XL (SMD Inductor, 2-Leads, Body 10.0x9.0x5.9 mm)
pins: 1, 2

## 744776168
designator L?
SMD Power Inductor WE-PD2, L = 68.0 µH; PartNumber: 744776168; Inductance: 68.0 µH; DatasheetVersion: ver 1, Oct-2004; PackageReference: WE-PD2-XL; PackageDescription: SMD Inductor, 2-Leads, Body 10.0 x 9.0 mm; ComponentLink1Description: Manufacturer URL; ComponentLink1URL: http://www.we-online.com; ComponentLink2Description: Datasheet; ComponentLink2URL: http://www.we-online.de/katalog/media/pdf/744776168.pdf
footprint WE-PD2-XL (SMD Inductor, 2-Leads, Body 10.0x9.0x5.9 mm)
pins: 1, 2

## 744776182
designator L?
SMD Power Inductor WE-PD2, L = 82.0 µH; PartNumber: 744776182; Inductance: 82.0 µH; DatasheetVersion: ver 1, Oct-2004; PackageReference: WE-PD2-XL; PackageDescription: SMD Inductor, 2-Leads, Body 10.0 x 9.0 mm; ComponentLink1Description: Manufacturer URL; ComponentLink1URL: http://www.we-online.com; ComponentLink2Description: Datasheet; ComponentLink2URL: http://www.we-online.de/katalog/media/pdf/744776182.pdf
footprint WE-PD2-XL (SMD Inductor, 2-Leads, Body 10.0x9.0x5.9 mm)
pins: 1, 2

## 744776212
designator L?
SMD Power Inductor WE-PD2, L = 120 µH; PartNumber: 744776212; Inductance: 120 µH; DatasheetVersion: ver 1, Oct-2004; PackageReference: WE-PD2-XL; PackageDescription: SMD Inductor, 2-Leads, Body 10.0 x 9.0 mm; ComponentLink1Description: Manufacturer URL; ComponentLink1URL: http://www.we-online.com; ComponentLink2Description: Datasheet; ComponentLink2URL: http://www.we-online.de/katalog/media/pdf/744776212.pdf
footprint WE-PD2-XL (SMD Inductor, 2-Leads, Body 10.0x9.0x5.9 mm)
pins: 1, 2

## 744776215
designator L?
SMD Power Inductor WE-PD2, L = 150 µH; PartNumber: 744776215; Inductance: 150 µH; DatasheetVersion: ver 1, Oct-2004; PackageReference: WE-PD2-XL; PackageDescription: SMD Inductor, 2-Leads, Body 10.0 x 9.0 mm; ComponentLink1Description: Manufacturer URL; ComponentLink1URL: http://www.we-online.com; ComponentLink2Description: Datasheet; ComponentLink2URL: http://www.we-online.de/katalog/media/pdf/744776215.pdf
footprint WE-PD2-XL (SMD Inductor, 2-Leads, Body 10.0x9.0x5.9 mm)
pins: 1, 2

## 744776218
designator L?
SMD Power Inductor WE-PD2, L = 180 µH; PartNumber: 744776218; Inductance: 180 µH; DatasheetVersion: ver 1, Oct-2004; PackageReference: WE-PD2-XL; PackageDescription: SMD Inductor, 2-Leads, Body 10.0 x 9.0 mm; ComponentLink1Description: Manufacturer URL; ComponentLink1URL: http://www.we-online.com; ComponentLink2Description: Datasheet; ComponentLink2URL: http://www.we-online.de/katalog/media/pdf/744776218.pdf
footprint WE-PD2-XL (SMD Inductor, 2-Leads, Body 10.0x9.0x5.9 mm)
pins: 1, 2

## 744776222
designator L?
SMD Power Inductor WE-PD2, L = 220 µH; PartNumber: 744776222; Inductance: 220 µH; DatasheetVersion: ver 1, Oct-2004; PackageReference: WE-PD2-XL; PackageDescription: SMD Inductor, 2-Leads, Body 10.0 x 9.0 mm; ComponentLink1Description: Manufacturer URL; ComponentLink1URL: http://www.we-online.com; ComponentLink2Description: Datasheet; ComponentLink2URL: http://www.we-online.de/katalog/media/pdf/744776222.pdf
footprint WE-PD2-XL (SMD Inductor, 2-Leads, Body 10.0x9.0x5.9 mm)
pins: 1, 2